# Altium footprint library Wurth.PcbLib: 2 footprints
Each footprint in its own frame and in the unit in brackets; x right, y up, seen from the top. Pads: shape width x height; smd on the part's side, far side on the other; paste and mask are expansions set on the pad; w line width, h text height; cw(c..) or ccw(c..) is an arc to the next point about the centre after c.
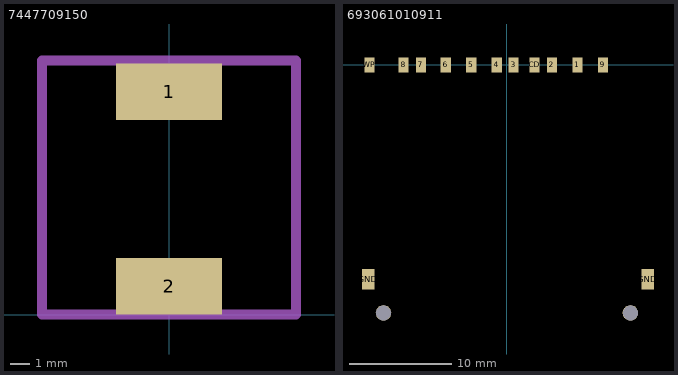
[diagram p0: the footprints below, top view; thin cyan lines are the x and y axes]

## 7447709150 [mm] "Inductor"
pads (2):
  rect 5.4x2.9 smd: 1(0,11.4) 2(0,1.45)
Mechanical 1:
  lines w0.5: -6.5,0 -6.5,13 6.5,13 6.5,0 -6.5,0

## 693061010911 [mm] "Speicherkartenverbinder WR-CRD SD Card Dtctn 9Pin Push & Push"
height 2.85
pads (15):
  rect 1x1.5 smd: 1(6.9,0) 2(4.4,0) 3(0.65,0) 4(-1,0) 5(-3.5,0) 6(-6,0) 7(-8.43,0) 8(-10.13,0) 9(9.4,0) CD(2.7,0) WP(-13.48,0)
  rect 1.2x2 smd: GND(-13.6,-21.01) GND(13.8,-21.01)
  round 1.524 hole 1.5 unplated: ""(-12.1,-24.31) ""(12.1,-24.31)
3D body: height 2.9, standoff 0.1, extent -14.4,-28.9 14.4,0